# EAGLE library part IPAD3-CONN (library con-ipad3)
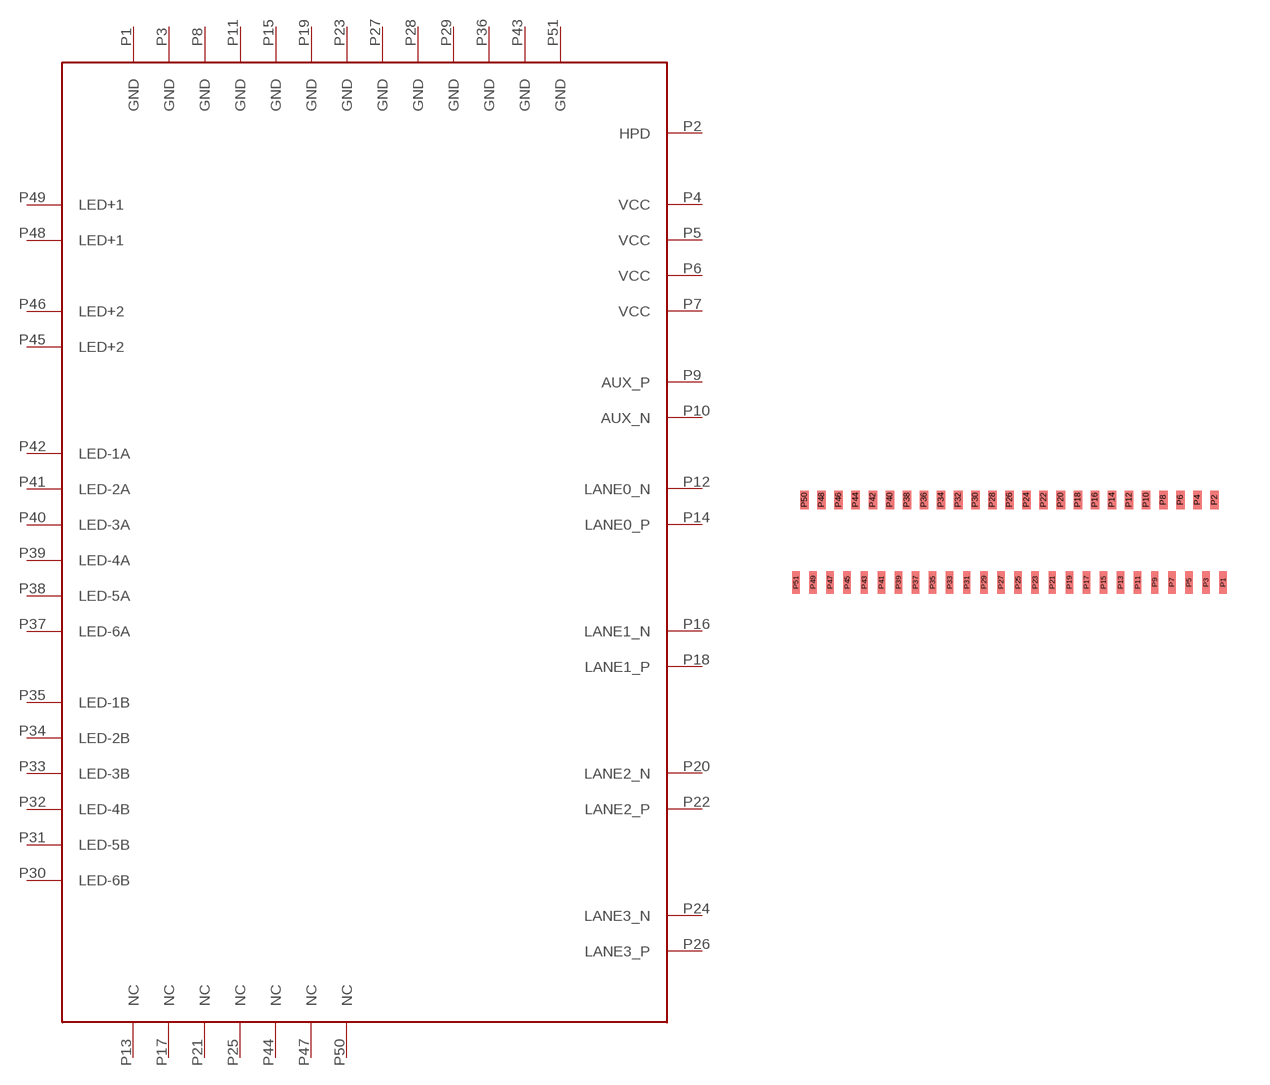
[diagram p0: symbol with the pads of MOLEX502250-5191; footprint MOLEX502250-5191]

Designator prefix -

## IPAD3-CONN  [MOLEX502250-5191]
P1  GND
P2  HPD
P3  GND
P4  VCC
P5  VCC
P6  VCC
P7  VCC
P8  GND
P9  AUX_P
P10  AUX_N
P11  GND
P12  LANE0_N
P13  NC
P14  LANE0_P
P15  GND
P16  LANE1_N
P17  NC
P18  LANE1_P
P19  GND
P20  LANE2_N
P21  NC
P22  LANE2_P
P23  GND
P24  LANE3_N
P25  NC
P26  LANE3_P
P27  GND
P28  GND
P29  GND
P30  LED-6B
P31  LED-5B
P32  LED-4B
P33  LED-3B
P34  LED-2B
P35  LED-1B
P36  GND
P37  LED-6A
P38  LED-5A
P39  LED-4A
P40  LED-3A
P41  LED-2A
P42  LED-1A
P43  GND
P44  NC
P45  LED+2
P46  LED+2
P47  NC
P48  LED+1
P49  LED+1
P50  NC
P51  GND

## Footprint MOLEX502250-5191 (pad centres in mm)
smd 0.26 x 0.8: P1 13.2,-0.2; P3 12.6,-0.2; P5 12,-0.2; P7 11.4,-0.2; P9 10.8,-0.2; P11 10.2,-0.2; P13 9.6,-0.2; P15 9,-0.2; P17 8.4,-0.2; P19 7.8,-0.2; P21 7.2,-0.2; P23 6.6,-0.2; P25 6,-0.2; P27 5.4,-0.2; P29 4.8,-0.2; P31 4.2,-0.2; P33 3.6,-0.2; P35 3,-0.2; P37 2.4,-0.2; P39 1.8,-0.2; P41 1.2,-0.2; P43 0.6,-0.2; P45 0,-0.2; P47 -0.6,-0.2; P49 -1.2,-0.2; P51 -1.8,-0.2
smd 0.3 x 0.65: P2 12.9,2.7; P4 12.3,2.7; P6 11.7,2.7; P8 11.1,2.7; P10 10.5,2.7; P12 9.9,2.7; P14 9.3,2.7; P16 8.7,2.7; P18 8.1,2.7; P20 7.5,2.7; P22 6.9,2.7; P24 6.3,2.7; P26 5.7,2.7; P28 5.1,2.7; P30 4.5,2.7; P32 3.9,2.7; P34 3.3,2.7; P36 2.7,2.7; P38 2.1,2.7; P40 1.5,2.7; P42 0.9,2.7; P44 0.3,2.7; P46 -0.3,2.7; P48 -0.9,2.7; P50 -1.5,2.7